# Altium footprint library Jumper.PcbLib: 2 footprints
Each footprint in its own frame and in the unit in brackets; x right, y up, seen from the top. Pads: shape width x height; smd on the part's side, far side on the other; paste and mask are expansions set on the pad; w line width, h text height; cw(c..) or ccw(c..) is an arc to the next point about the centre after c.
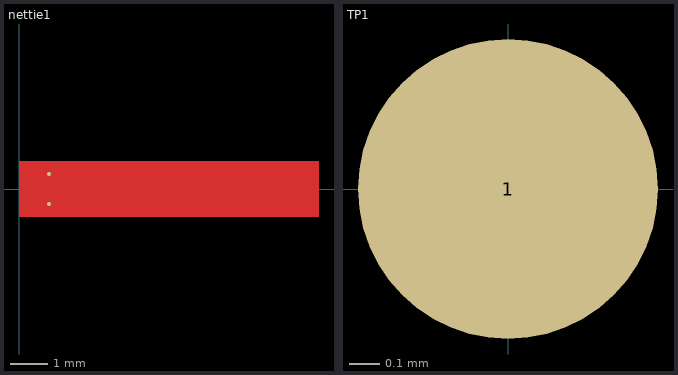
[diagram p0: the footprints below, top view; thin cyan lines are the x and y axes]

## nettie1 [mm]
pads (2):
  round 0.1 smd: 1(0.8,0.4) 2(0.8,-0.4)
Top Layer:
  rectangle: 0,0 8,0.75
  rectangle: 0,-0.75 8,0.1

## TP1 [mm] "Testpoint SMT"
pads (1):
  round 1 smd mask+0.102: 1(0,0)